# Altium footprint library USB_A_SMD.PcbLib: 2 footprints
Each footprint in its own frame and in the unit in brackets; x right, y up, seen from the top. Pads: shape width x height; smd on the part's side, far side on the other; paste and mask are expansions set on the pad; w line width, h text height; cw(c..) or ccw(c..) is an arc to the next point about the centre after c.
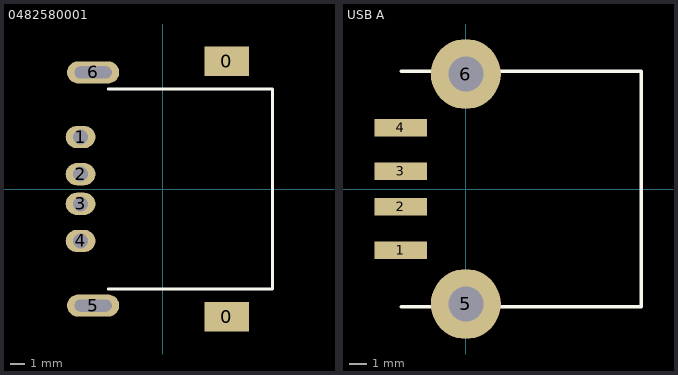
[diagram p0: the footprints below, top view; thin cyan lines are the x and y axes]

## 0482580001 [mm] "Right Angle"
height 4.5
pads (8):
  rect 3x2 smd: 0(4.3,-8.6) 0(4.3,8.6)
  oval 2x1.5 hole 1: 1(-5.55,3.5) 2(-5.55,1) 3(-5.55,-1) 4(-5.55,-3.5)
  oval 3.5x1.5 hole 0.8 slot 2.5 at 0 deg: 5(-4.7,-7.85) 6(-4.7,7.85)
Top Overlay:
  lines w0.2: -3.683,-6.731 7.366,-6.731 7.366,6.731 -3.683,6.731
3D body: height 4.27, standoff -2.63, extent -6.6,-8.55 7.4,8.55

## USB A [mm] "Right Angle"
height 4.5
pads (6):
  rect 3x1 smd: 1(-3.71,-3.5) 2(-3.71,-1) 3(-3.71,1) 4(-3.71,3.5)
  round 4 hole 2: 5(0,-6.57) 6(0,6.57)
Top Overlay:
  lines w0.2: -3.683,-6.731 10.033,-6.731 10.033,6.731 -3.683,6.731
3D body: height 7.5, standoff -3.81, extent -4.781,-7.747 10.369,7.953